# EAGLE library part ROTARY5 (library AEIS)
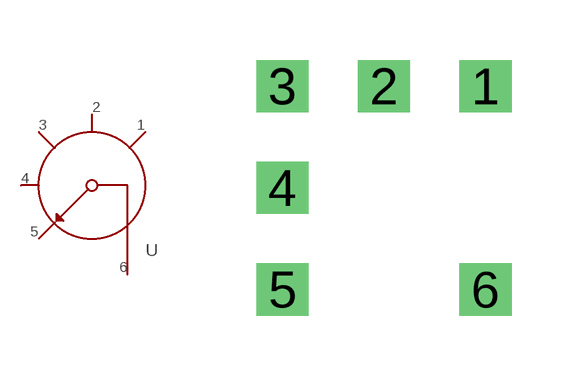
[diagram p0: symbol with the pads of ROTARY5; footprint ROTARY5]

Designator prefix -

## ROTARY5  [ROTARY5]
1  P$1
2  P$2
3  P$3
4  P$4
5  P$5
6  P$6

## Footprint ROTARY5 (pad centres in mm)
drill 0.8 square: 1 2.54,2.54; 2 0,2.54; 3 -2.54,2.54; 4 -2.54,0; 5 -2.54,-2.54; 6 2.54,-2.54